# Altium schematic symbol library 2604-1108.SchLib: 1 symbol
Pins are listed as number, name and electrical type; pins without a type are passive.

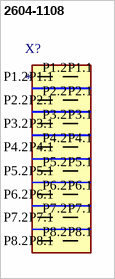
[diagram p0: symbol 2604-1108]

## 2604-1108
designator X?
MP: 2604-1108; MF: {'manufacturer': u'WAGO Innovative Connections'}; Value: *; Availability: Unavailable; Package: None; Price: None
footprint P-2604-1108
pins: P1.1 (io), P1.2 (io), P2.1 (io), P2.2 (io), P3.1 (io), P3.2 (io), P4.1 (io), P4.2 (io), P5.1 (io), P5.2 (io), P6.1 (io), P6.2 (io), P7.1 (io), P7.2 (io), P8.1 (io), P8.2 (io)